# Altium footprint library MicroSemi.PcbLib: 1 footprints
Each footprint in its own frame and in the unit in brackets; x right, y up, seen from the top. Pads: shape width x height; smd on the part's side, far side on the other; paste and mask are expansions set on the pad; w line width, h text height; cw(c..) or ccw(c..) is an arc to the next point about the centre after c.
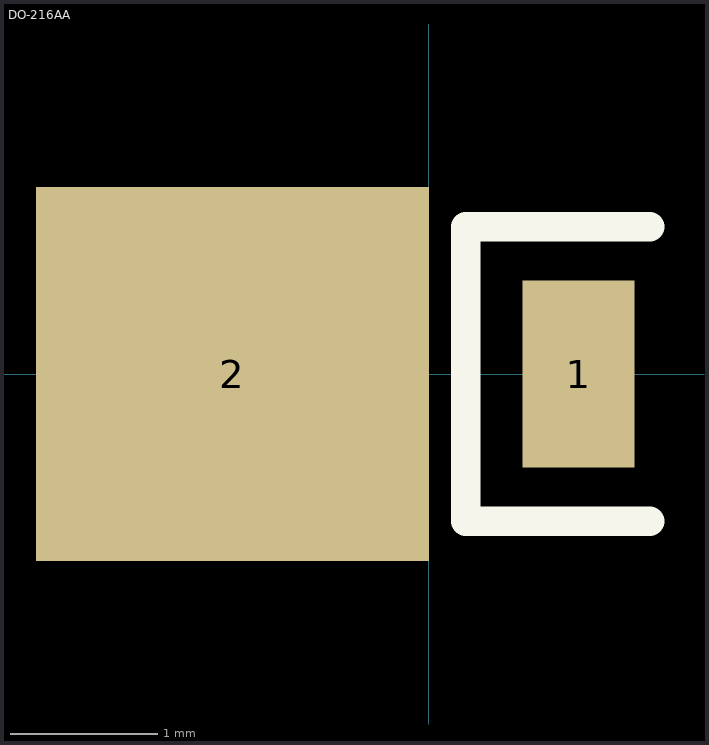
[diagram p0: the footprint, top view; thin cyan lines are the x and y axes]

## DO-216AA [mil] "Surface mount diode"
height 40
pads (2):
  rect 30x50 smd: 1(40,0)
  rect 105x100 smd: 2(-52.5,0)
Top Overlay:
  lines w7.87: 59.06,-39.37 9.84,-39.37 9.84,39.37 59.06,39.37
3D body: height 40, standoff 0, extent -98.43,-39.37 -9.84,39.37
3D body: height 25, standoff 0, extent -9.84,-9.84 39.37,9.84